# EAGLE library part SN65HVD35_D_14 (library SN65HVD35)
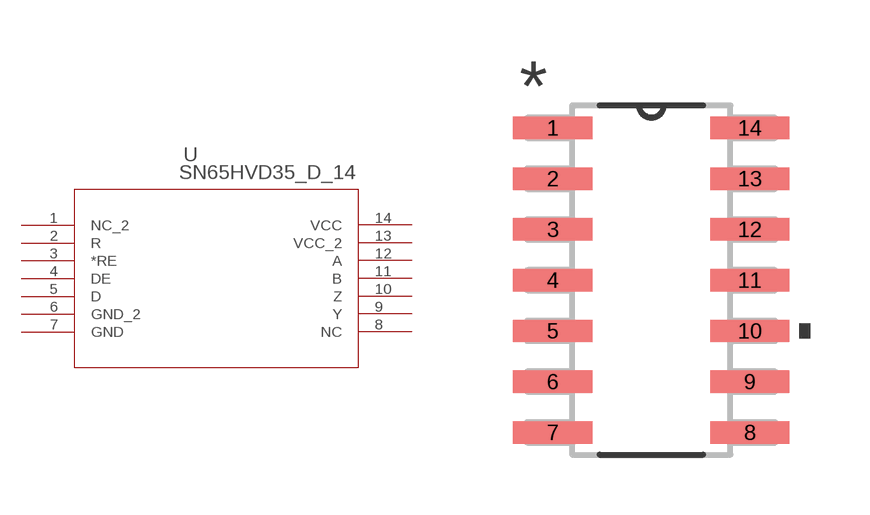
[diagram p0: symbol with the pads of D14; footprint D14]

Designator prefix U

## SN65HVD35_D_14 (DATASHEETURL: httpwww.ti.comlitgpnSN65HVD35; FAMILY_NAME: RS485; GENERIC_PART_NUMBER: SN65HVD35; INDUSTRY_STD_PKG_TYPE: SOIC; MANUFACTURER: Texas Instruments; MANUFACTURER_PART_NUMBER: sn65hvd35_d_14; PACKAGE_DESIGNATOR: D; PIN_COUNT: 14; VENDOR: Texas Instruments)  [D14]
1  NC_2  pas
2  R  in
3  *RE  in
4  DE  in
5  D  in
6  GND_2  pwr
7  GND  pwr
8  NC  pas
9  Y  out
10  Z  out
11  B  out
12  A  out
13  VCC_2  pwr
14  VCC  pwr

## Footprint D14 (pad centres in mm)
smd 1.981 x 0.559: 1 -2.464,3.81; 2 -2.464,2.54; 3 -2.464,1.27; 4 -2.464,0; 5 -2.464,-1.27; 6 -2.464,-2.54; 7 -2.464,-3.81; 8 2.464,-3.81; 9 2.464,-2.54; 10 2.464,-1.27; 11 2.464,0; 12 2.464,1.27; 13 2.464,2.54; 14 2.464,3.81